# EAGLE library part 54104-4031 (library ik)
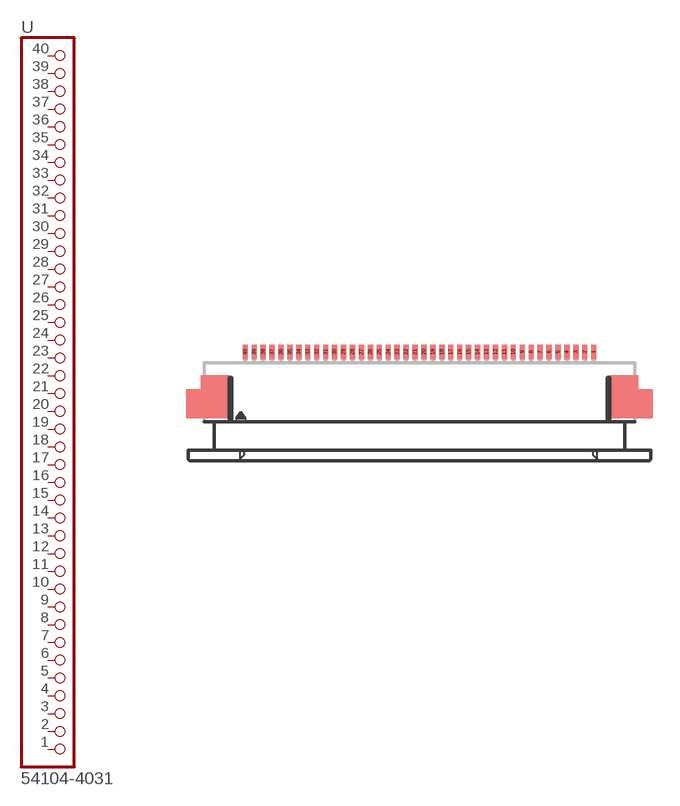
[diagram p1: symbol with the pads of 54132-4097; footprint 54132-4097]

Designator prefix -

## 54104-4031  [54132-4097]
1  40  pas
2  39  pas
3  38  pas
4  37  pas
5  36  pas
6  35  pas
7  34  pas
8  33  pas
9  32  pas
10  31  pas
11  30  pas
12  29  pas
13  28  pas
14  27  pas
15  26  pas
16  25  pas
17  24  pas
18  23  pas
19  22  pas
20  21  pas
21  20  pas
22  19  pas
23  18  pas
24  17  pas
25  16  pas
26  15  pas
27  14  pas
28  13  pas
29  12  pas
30  11  pas
31  10  pas
32  9  pas
33  8  pas
34  7  pas
35  6  pas
36  5  pas
37  4  pas
38  3  pas
39  2  pas
40  1  pas

## Footprint 54132-4097 (pad centres in mm)
FFC/FPC-to-Board 0.50mm (.020") SMT Top Contact Right Angle, ZIF, Style Receptacle 52745 / 52435 Source: http://www.molex.com/product/ffc/52745.html
smd 0.3 x 0.8: 1 12.25,2.5; 2 11.75,2.5; 3 11.25,2.5; 4 10.75,2.5; 5 10.25,2.5; 6 9.75,2.5; 7 9.25,2.5; 8 8.75,2.5; 9 8.25,2.5; 10 7.75,2.5; 11 7.25,2.5; 12 6.75,2.5; 13 6.25,2.5; 14 5.75,2.5; 15 5.25,2.5; 16 4.75,2.5; 17 4.25,2.5; 18 3.75,2.5; 19 3.25,2.5; 20 2.75,2.5; 21 2.25,2.5; 22 1.75,2.5; 23 1.25,2.5; 24 0.75,2.5; 25 0.25,2.5; 26 -0.25,2.5; 27 -0.75,2.5; 28 -1.25,2.5; 29 -1.75,2.5; 30 -2.25,2.5; 31 -2.75,2.5; 32 -3.25,2.5; 33 -3.75,2.5; 34 -4.25,2.5; 35 -4.75,2.5; 36 -5.25,2.5; 37 -5.75,2.5; 38 -6.25,2.5; 39 -6.75,2.5; 40 -7.25,2.5